# Altium footprint library Hydrophone.PcbLib: 32 footprints (part 2 of 2)
Each footprint in its own frame and in the unit in brackets; x right, y up, seen from the top. Pads: shape width x height; smd on the part's side, far side on the other; paste and mask are expansions set on the pad; w line width, h text height; cw(c..) or ccw(c..) is an arc to the next point about the centre after c.
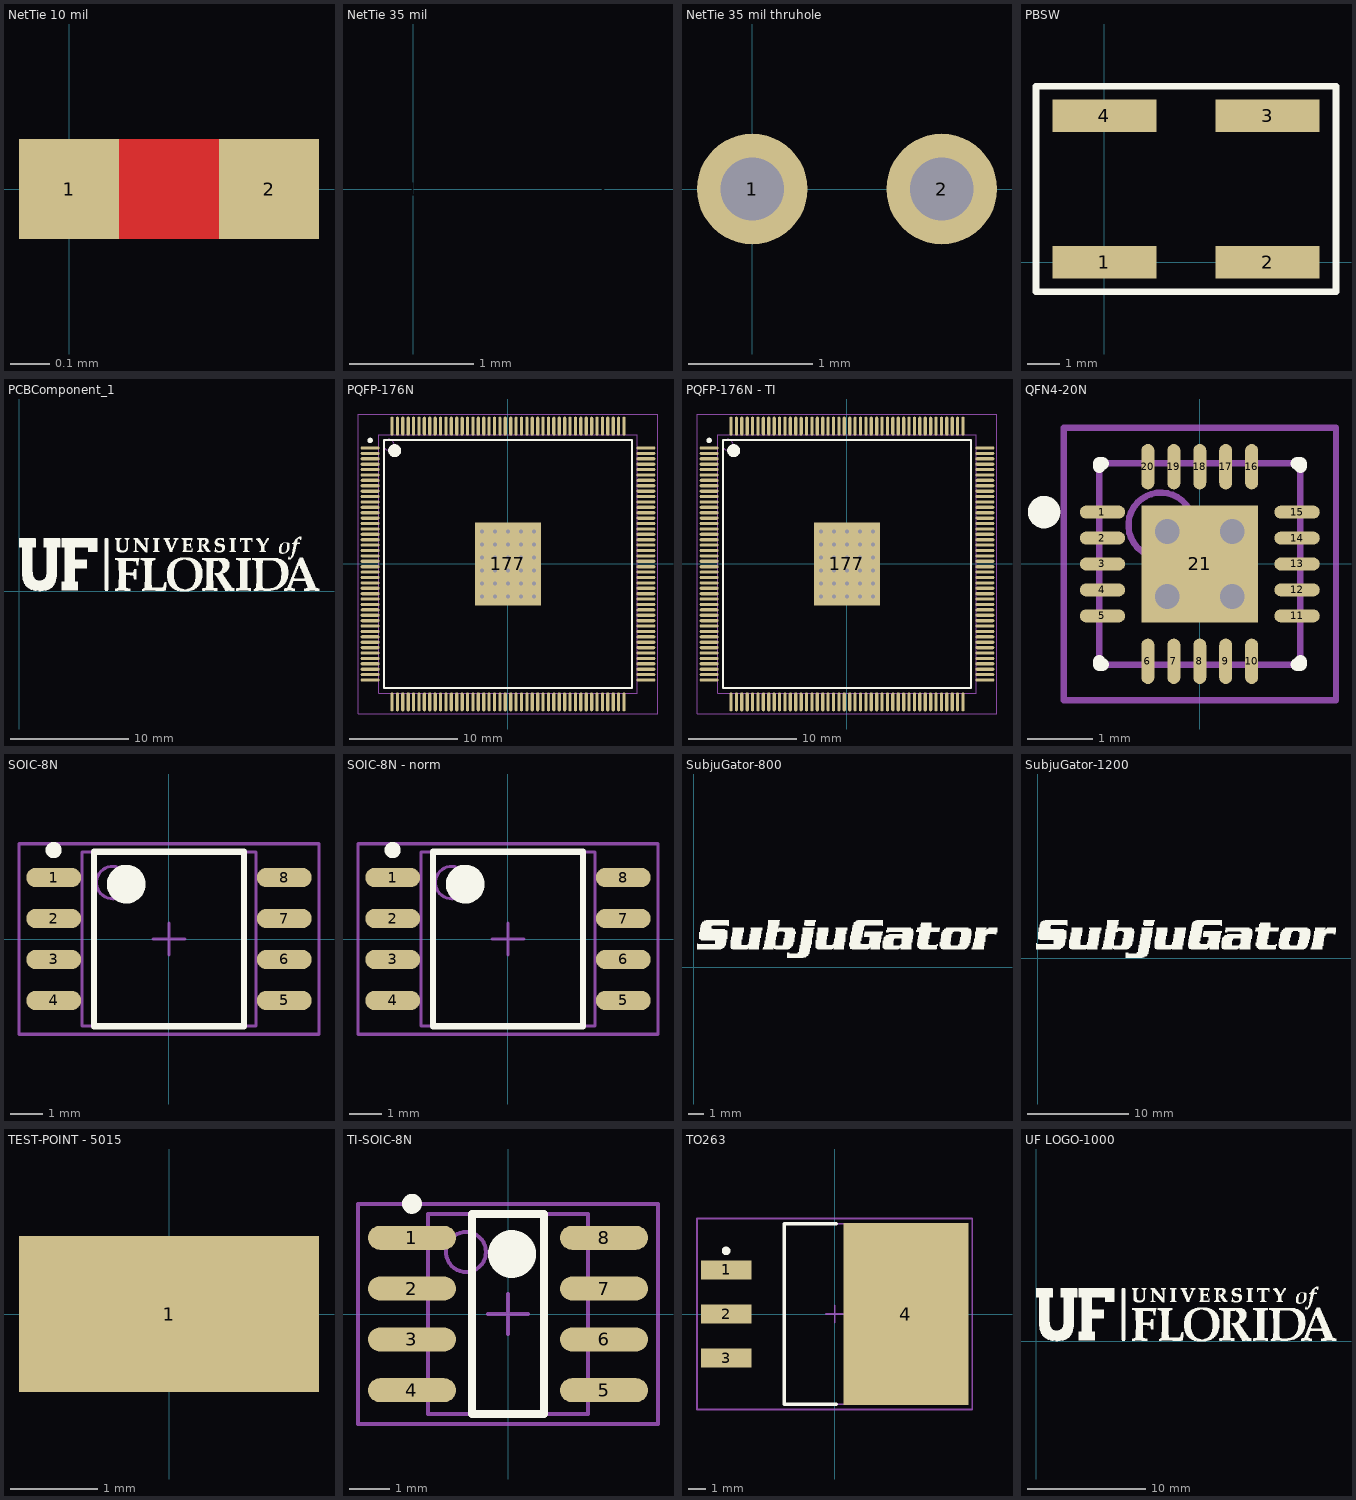
[diagram p1: the footprints below, top view; thin cyan lines are the x and y axes]

## NetTie 10 mil [mil]
pads (2):
  rect 10x10 smd paste-10 mask-10: 1(0,0) 2(20,0)
Top Layer:
  lines w10: 0,0 20,0

## NetTie 35 mil [mil]
pads (2):
  rect 35x35 on Mid1 paste+0 mask-35: 1(0,0) 2(60,0)
MidLayer1:
  lines w40: 0,0 60,0

## NetTie 35 mil thruhole [mil]
pads (2):
  round 35 hole 20 paste+0: 1(0,0)
  round 35 hole 20: 2(60,0)
MidLayer1:
  lines w35: 0,0 60,0

## PBSW [mm]
height 5
pads (4):
  rect 3.2x1 smd: 1(0,0) 2(5,0) 3(5,4.5) 4(0,4.5)
Top Overlay:
  lines w0.203: -2.1,-0.9 7.1,-0.9 7.1,5.4 -2.1,5.4 -2.1,-0.9
3D body: height 5, standoff 0, extent -2,-0.75 7,5.25

## PCBComponent_1 [mm]
Top Overlay:
  drawing of 22 lines, arcs and shapes, not listed

## PQFP-176N [mm] "PQFP, 176-Leads, Body 25.8x25.8mm (max), Pitch 0.50mm, IPC Medium Density"
height 1.6
pads (177):
  oval 1.75x0.3 smd mask+0.05: 1(-12.775,10.75) 2(-12.775,10.25) 3(-12.775,9.75) 4(-12.775,9.25) 5(-12.775,8.75) 6(-12.775,8.25) 7(-12.775,7.75) 8(-12.775,7.25) 9(-12.775,6.75) 10(-12.775,6.25) 11(-12.775,5.75) 12(-12.775,5.25) 13(-12.775,4.75) 14(-12.775,4.25) 15(-12.775,3.75) 16(-12.775,3.25) 17(-12.775,2.75) 18(-12.775,2.25) 19(-12.775,1.75) 20(-12.775,1.25) 21(-12.775,0.75) 22(-12.775,0.25) 23(-12.775,-0.25) 24(-12.775,-0.75) 25(-12.775,-1.25) 26(-12.775,-1.75) 27(-12.775,-2.25) 28(-12.775,-2.75) 29(-12.775,-3.25) 30(-12.775,-3.75) 31(-12.775,-4.25) 32(-12.775,-4.75) 33(-12.775,-5.25) 34(-12.775,-5.75) 35(-12.775,-6.25) 36(-12.775,-6.75) 37(-12.775,-7.25) 38(-12.775,-7.75) 39(-12.775,-8.25) 40(-12.775,-8.75) 41(-12.775,-9.25) 42(-12.775,-9.75) 43(-12.775,-10.25) 44(-12.775,-10.75) 89(12.775,-10.75) 90(12.775,-10.25) 91(12.775,-9.75) 92(12.775,-9.25) 93(12.775,-8.75) 94(12.775,-8.25) 95(12.775,-7.75) 96(12.775,-7.25) 97(12.775,-6.75) 98(12.775,-6.25) 99(12.775,-5.75) 100(12.775,-5.25) 101(12.775,-4.75) 102(12.775,-4.25) 103(12.775,-3.75) 104(12.775,-3.25) 105(12.775,-2.75) 106(12.775,-2.25) 107(12.775,-1.75) 108(12.775,-1.25) 109(12.775,-0.75) 110(12.775,-0.25) 111(12.775,0.25) 112(12.775,0.75) 113(12.775,1.25) 114(12.775,1.75) 115(12.775,2.25) 116(12.775,2.75) 117(12.775,3.25) 118(12.775,3.75) 119(12.775,4.25) 120(12.775,4.75) 121(12.775,5.25) 122(12.775,5.75) 123(12.775,6.25) 124(12.775,6.75) 125(12.775,7.25) 126(12.775,7.75) 127(12.775,8.25) 128(12.775,8.75) 129(12.775,9.25) 130(12.775,9.75) 131(12.775,10.25) 132(12.775,10.75)
  oval 0.3x1.75 smd mask+0.05: 45(-10.75,-12.775) 46(-10.25,-12.775) 47(-9.75,-12.775) 48(-9.25,-12.775) 49(-8.75,-12.775) 50(-8.25,-12.775) 51(-7.75,-12.775) 52(-7.25,-12.775) 53(-6.75,-12.775) 54(-6.25,-12.775) 55(-5.75,-12.775) 56(-5.25,-12.775) 57(-4.75,-12.775) 58(-4.25,-12.775) 59(-3.75,-12.775) 60(-3.25,-12.775) 61(-2.75,-12.775) 62(-2.25,-12.775) 63(-1.75,-12.775) 64(-1.25,-12.775) 65(-0.75,-12.775) 66(-0.25,-12.775) 67(0.25,-12.775) 68(0.75,-12.775) 69(1.25,-12.775) 70(1.75,-12.775) 71(2.25,-12.775) 72(2.75,-12.775) 73(3.25,-12.775) 74(3.75,-12.775) 75(4.25,-12.775) 76(4.75,-12.775) 77(5.25,-12.775) 78(5.75,-12.775) 79(6.25,-12.775) 80(6.75,-12.775) 81(7.25,-12.775) 82(7.75,-12.775) 83(8.25,-12.775) 84(8.75,-12.775) 85(9.25,-12.775) 86(9.75,-12.775) 87(10.25,-12.775) 88(10.75,-12.775) 133(10.75,12.775) 134(10.25,12.775) 135(9.75,12.775) 136(9.25,12.775) 137(8.75,12.775) 138(8.25,12.775) 139(7.75,12.775) 140(7.25,12.775) 141(6.75,12.775) 142(6.25,12.775) 143(5.75,12.775) 144(5.25,12.775) 145(4.75,12.775) 146(4.25,12.775) 147(3.75,12.775) 148(3.25,12.775) 149(2.75,12.775) 150(2.25,12.775) 151(1.75,12.775) 152(1.25,12.775) 153(0.75,12.775) 154(0.25,12.775) 155(-0.25,12.775) 156(-0.75,12.775) 157(-1.25,12.775) 158(-1.75,12.775) 159(-2.25,12.775) 160(-2.75,12.775) 161(-3.25,12.775) 162(-3.75,12.775) 163(-4.25,12.775) 164(-4.75,12.775) 165(-5.25,12.775) 166(-5.75,12.775) 167(-6.25,12.775) 168(-6.75,12.775) 169(-7.25,12.775) 170(-7.75,12.775) 171(-8.25,12.775) 172(-8.75,12.775) 173(-9.25,12.775) 174(-9.75,12.775) 175(-10.25,12.775) 176(-10.75,12.775)
  rect 6.1x7.7 smd: 177(0,0)
via -2.4,3 diameter 0.711 hole 0.381
via -1.2,3 diameter 0.711 hole 0.381
via 0,3 diameter 0.711 hole 0.381
via 1.2,3 diameter 0.711 hole 0.381
via 2.4,3 diameter 0.711 hole 0.381
via -2.4,1.8 diameter 0.711 hole 0.381
via -1.2,1.8 diameter 0.711 hole 0.381
via 0,1.8 diameter 0.711 hole 0.381
via 1.2,1.8 diameter 0.711 hole 0.381
via 2.4,1.8 diameter 0.711 hole 0.381
via -2.4,0.6 diameter 0.711 hole 0.381
via -1.2,0.6 diameter 0.711 hole 0.381
via 0,0.6 diameter 0.711 hole 0.381
via 1.2,0.6 diameter 0.711 hole 0.381
via 2.4,0.6 diameter 0.711 hole 0.381
via -2.4,-0.6 diameter 0.711 hole 0.381
via -1.2,-0.6 diameter 0.711 hole 0.381
via 0,-0.6 diameter 0.711 hole 0.381
via 1.2,-0.6 diameter 0.711 hole 0.381
via 2.4,-0.6 diameter 0.711 hole 0.381
via -2.4,-1.8 diameter 0.711 hole 0.381
via -1.2,-1.8 diameter 0.711 hole 0.381
via 0,-1.8 diameter 0.711 hole 0.381
via 1.2,-1.8 diameter 0.711 hole 0.381
via 2.4,-1.8 diameter 0.711 hole 0.381
via -2.4,-3 diameter 0.711 hole 0.381
via -1.2,-3 diameter 0.711 hole 0.381
via 0,-3 diameter 0.711 hole 0.381
via 1.2,-3 diameter 0.711 hole 0.381
via 2.4,-3 diameter 0.711 hole 0.381
Top Overlay:
  circle w0.25: c-12.775,11.45 r0.125
  circle w0.6: c-10.5,10.5 r0.3
  lines w0.2: -11.5,-11.5 -11.5,11.5 11.5,11.5 11.5,-11.5 -11.5,-11.5
Mechanical 13:
  circle w0.1: c-11.05,11.05 r0.5
  lines w0.1: -12,-12 -12,12 12,12 12,-12 -12,-12
Mechanical 15:
  lines w0.1: -0.5,0 0.5,0 ; 0,-0.5 0,0.5 ; -13.9,-13.9 -13.9,13.9 13.9,13.9 13.9,-13.9 -13.9,-13.9
3D body: height 1.35, standoff 0, extent -13.014,-13.014 13.014,13.014

## PQFP-176N - TI [mm] "PQFP, 176-Leads, Body 25.8x25.8mm (max), Pitch 0.50mm, IPC Medium Density"
height 1.6
pads (177):
  oval 1.75x0.3 smd mask+0.05: 1(-12.775,10.75) 2(-12.775,10.25) 3(-12.775,9.75) 4(-12.775,9.25) 5(-12.775,8.75) 6(-12.775,8.25) 7(-12.775,7.75) 8(-12.775,7.25) 9(-12.775,6.75) 10(-12.775,6.25) 11(-12.775,5.75) 12(-12.775,5.25) 13(-12.775,4.75) 14(-12.775,4.25) 15(-12.775,3.75) 16(-12.775,3.25) 17(-12.775,2.75) 18(-12.775,2.25) 19(-12.775,1.75) 20(-12.775,1.25) 21(-12.775,0.75) 22(-12.775,0.25) 23(-12.775,-0.25) 24(-12.775,-0.75) 25(-12.775,-1.25) 26(-12.775,-1.75) 27(-12.775,-2.25) 28(-12.775,-2.75) 29(-12.775,-3.25) 30(-12.775,-3.75) 31(-12.775,-4.25) 32(-12.775,-4.75) 33(-12.775,-5.25) 34(-12.775,-5.75) 35(-12.775,-6.25) 36(-12.775,-6.75) 37(-12.775,-7.25) 38(-12.775,-7.75) 39(-12.775,-8.25) 40(-12.775,-8.75) 41(-12.775,-9.25) 42(-12.775,-9.75) 43(-12.775,-10.25) 44(-12.775,-10.75) 89(12.775,-10.75) 90(12.775,-10.25) 91(12.775,-9.75) 92(12.775,-9.25) 93(12.775,-8.75) 94(12.775,-8.25) 95(12.775,-7.75) 96(12.775,-7.25) 97(12.775,-6.75) 98(12.775,-6.25) 99(12.775,-5.75) 100(12.775,-5.25) 101(12.775,-4.75) 102(12.775,-4.25) 103(12.775,-3.75) 104(12.775,-3.25) 105(12.775,-2.75) 106(12.775,-2.25) 107(12.775,-1.75) 108(12.775,-1.25) 109(12.775,-0.75) 110(12.775,-0.25) 111(12.775,0.25) 112(12.775,0.75) 113(12.775,1.25) 114(12.775,1.75) 115(12.775,2.25) 116(12.775,2.75) 117(12.775,3.25) 118(12.775,3.75) 119(12.775,4.25) 120(12.775,4.75) 121(12.775,5.25) 122(12.775,5.75) 123(12.775,6.25) 124(12.775,6.75) 125(12.775,7.25) 126(12.775,7.75) 127(12.775,8.25) 128(12.775,8.75) 129(12.775,9.25) 130(12.775,9.75) 131(12.775,10.25) 132(12.775,10.75)
  oval 0.3x1.75 smd mask+0.05: 45(-10.75,-12.775) 46(-10.25,-12.775) 47(-9.75,-12.775) 48(-9.25,-12.775) 49(-8.75,-12.775) 50(-8.25,-12.775) 51(-7.75,-12.775) 52(-7.25,-12.775) 53(-6.75,-12.775) 54(-6.25,-12.775) 55(-5.75,-12.775) 56(-5.25,-12.775) 57(-4.75,-12.775) 58(-4.25,-12.775) 59(-3.75,-12.775) 60(-3.25,-12.775) 61(-2.75,-12.775) 62(-2.25,-12.775) 63(-1.75,-12.775) 64(-1.25,-12.775) 65(-0.75,-12.775) 66(-0.25,-12.775) 67(0.25,-12.775) 68(0.75,-12.775) 69(1.25,-12.775) 70(1.75,-12.775) 71(2.25,-12.775) 72(2.75,-12.775) 73(3.25,-12.775) 74(3.75,-12.775) 75(4.25,-12.775) 76(4.75,-12.775) 77(5.25,-12.775) 78(5.75,-12.775) 79(6.25,-12.775) 80(6.75,-12.775) 81(7.25,-12.775) 82(7.75,-12.775) 83(8.25,-12.775) 84(8.75,-12.775) 85(9.25,-12.775) 86(9.75,-12.775) 87(10.25,-12.775) 88(10.75,-12.775) 133(10.75,12.775) 134(10.25,12.775) 135(9.75,12.775) 136(9.25,12.775) 137(8.75,12.775) 138(8.25,12.775) 139(7.75,12.775) 140(7.25,12.775) 141(6.75,12.775) 142(6.25,12.775) 143(5.75,12.775) 144(5.25,12.775) 145(4.75,12.775) 146(4.25,12.775) 147(3.75,12.775) 148(3.25,12.775) 149(2.75,12.775) 150(2.25,12.775) 151(1.75,12.775) 152(1.25,12.775) 153(0.75,12.775) 154(0.25,12.775) 155(-0.25,12.775) 156(-0.75,12.775) 157(-1.25,12.775) 158(-1.75,12.775) 159(-2.25,12.775) 160(-2.75,12.775) 161(-3.25,12.775) 162(-3.75,12.775) 163(-4.25,12.775) 164(-4.75,12.775) 165(-5.25,12.775) 166(-5.75,12.775) 167(-6.25,12.775) 168(-6.75,12.775) 169(-7.25,12.775) 170(-7.75,12.775) 171(-8.25,12.775) 172(-8.75,12.775) 173(-9.25,12.775) 174(-9.75,12.775) 175(-10.25,12.775) 176(-10.75,12.775)
  rect 6.1x7.7 smd: 177(0,0)
via 2.4,-3 diameter 0.711 hole 0.381
via 1.2,-3 diameter 0.711 hole 0.381
via 0,-3 diameter 0.711 hole 0.381
via -1.2,-3 diameter 0.711 hole 0.381
via -2.4,-3 diameter 0.711 hole 0.381
via 2.4,-1.8 diameter 0.711 hole 0.381
via 1.2,-1.8 diameter 0.711 hole 0.381
via 0,-1.8 diameter 0.711 hole 0.381
via -1.2,-1.8 diameter 0.711 hole 0.381
via -2.4,-1.8 diameter 0.711 hole 0.381
via 2.4,-0.6 diameter 0.711 hole 0.381
via 1.2,-0.6 diameter 0.711 hole 0.381
via 0,-0.6 diameter 0.711 hole 0.381
via -1.2,-0.6 diameter 0.711 hole 0.381
via -2.4,-0.6 diameter 0.711 hole 0.381
via 2.4,0.6 diameter 0.711 hole 0.381
via 1.2,0.6 diameter 0.711 hole 0.381
via 0,0.6 diameter 0.711 hole 0.381
via -1.2,0.6 diameter 0.711 hole 0.381
via -2.4,0.6 diameter 0.711 hole 0.381
via 2.4,1.8 diameter 0.711 hole 0.381
via 1.2,1.8 diameter 0.711 hole 0.381
via 0,1.8 diameter 0.711 hole 0.381
via -1.2,1.8 diameter 0.711 hole 0.381
via -2.4,1.8 diameter 0.711 hole 0.381
via 2.4,3 diameter 0.711 hole 0.381
via 1.2,3 diameter 0.711 hole 0.381
via 0,3 diameter 0.711 hole 0.381
via -1.2,3 diameter 0.711 hole 0.381
via -2.4,3 diameter 0.711 hole 0.381
Top Overlay:
  circle w0.6: c-10.5,10.5 r0.3
  circle w0.25: c-12.775,11.45 r0.125
  lines w0.2: -11.5,-11.5 11.5,-11.5 11.5,11.5 -11.5,11.5 -11.5,-11.5
Mechanical 13:
  circle w0.1: c-11.05,11.05 r0.5
  lines w0.1: -12,-12 12,-12 12,12 -12,12 -12,-12
Mechanical 15:
  lines w0.1: -0.5,0 0.5,0 ; 0,-0.5 0,0.5 ; -13.9,-13.9 13.9,-13.9 13.9,13.9 -13.9,13.9 -13.9,-13.9
3D body: height 1.36, standoff 0, extent -12.065,-12.065 12.065,12.065
3D body: height 1.35, standoff 0, extent -13.014,-13.014 13.014,13.014

## QFN4-20N [mm] "QFN, 20-Leads, Body 3.1x3.1mm (max), Pitch 0.40mm, IPC Medium Density"
height 0.8
pads (21):
  oval 0.7x0.2 smd mask+0.05: 1(-1.5,0.8) 2(-1.5,0.4) 3(-1.5,0) 4(-1.5,-0.4) 5(-1.5,-0.8) 11(1.5,-0.8) 12(1.5,-0.4) 13(1.5,0) 14(1.5,0.4) 15(1.5,0.8)
  oval 0.2x0.7 smd mask+0.05: 6(-0.8,-1.5) 7(-0.4,-1.5) 8(0,-1.5) 9(0.4,-1.5) 10(0.8,-1.5) 16(0.8,1.5) 17(0.4,1.5) 18(0,1.5) 19(-0.4,1.5) 20(-0.8,1.5)
  rect 1.8x1.8 smd: 21(0,0)
via -0.5,-0.5 diameter 0.711 hole 0.381
via 0.5,0.5 diameter 0.711 hole 0.381
via 0.5,-0.5 diameter 0.711 hole 0.381
via -0.5,0.5 diameter 0.711 hole 0.381
Top Overlay:
  circle w0.25: c-2.4,0.8 r0.125
  lines w0.2: -1.55,-1.5 -1.55,-1.55 -1.5,-1.55 ; -1.55,1.5 -1.55,1.55 -1.5,1.55 ; 1.5,-1.55 1.55,-1.55 1.55,-1.5 ; 1.5,1.55 1.55,1.55 1.55,1.5
Mechanical 13:
  circle w0.1: c-0.6,0.6 r0.5
  lines w0.1: -1.55,-1.55 1.55,-1.55 1.55,1.55 -1.55,1.55 -1.55,-1.55
Mechanical 15:
  lines w0.1: -0.5,0 0.5,0 ; 0,-0.5 0,0.5 ; -2.1,-2.1 2.1,-2.1 2.1,2.1 -2.1,2.1 -2.1,-2.1
3D body: height 0.92, standoff 0, extent -2,-2 2,2

## SOIC-8N [mm] "SOIC, 8-Leads, Body 5.4x5.4mm (max), Pitch 1.27mm, IPC Medium Density"
height 2.16
pads (8):
  oval 1.7x0.6 smd: 1(-3.575,1.905) 2(-3.575,0.635) 3(-3.575,-0.635) 4(-3.575,-1.905) 5(3.575,-1.905) 6(3.575,-0.635) 7(3.575,0.635) 8(3.575,1.905)
Top Overlay:
  circle w0.25: c-3.575,2.755 r0.125
  circle w0.6: c-1.325,1.7 r0.3
  lines w0.2: -2.325,-2.7 -2.325,2.7 2.325,2.7 2.325,-2.7 -2.325,-2.7
Mechanical 13:
  circle w0.1: c-1.75,1.75 r0.5
  lines w0.1: -2.7,-2.7 -2.7,2.7 2.7,2.7 2.7,-2.7 -2.7,-2.7
Mechanical 15:
  lines w0.1: -0.5,0 0.5,0 ; 0,-0.5 0,0.5 ; -4.65,-2.95 -4.65,2.95 4.65,2.95 4.65,-2.95 -4.65,-2.95
3D body: height 2.3, standoff -0.02, extent -4.196,-2.7 4.196,2.68

## SOIC-8N - norm [mm]
height 2.16
pads (8):
  oval 1.7x0.6 smd: 1(-3.575,1.905) 2(-3.575,0.635) 3(-3.575,-0.635) 4(-3.575,-1.905) 5(3.575,-1.905) 6(3.575,-0.635) 7(3.575,0.635) 8(3.575,1.905)
Top Overlay:
  circle w0.25: c-3.575,2.755 r0.125
  circle w0.6: c-1.325,1.7 r0.3
  lines w0.2: -2.325,-2.7 -2.325,2.7 2.325,2.7 2.325,-2.7 -2.325,-2.7
Mechanical 13:
  circle w0.1: c-1.75,1.75 r0.5
  lines w0.1: -2.7,-2.7 -2.7,2.7 2.7,2.7 2.7,-2.7 -2.7,-2.7
Mechanical 15:
  lines w0.1: -0.5,0 0.5,0 ; 0,-0.5 0,0.5 ; -4.65,-2.95 -4.65,2.95 4.65,2.95 4.65,-2.95 -4.65,-2.95
3D body: height 1.75, standoff 0, extent -3.006,-2.5 3.006,2.5

## SubjuGator-800 [mm]
Top Overlay:
  drawing of 11 lines, arcs and shapes, not listed

## SubjuGator-1200 [mm]
Top Overlay:
  drawing of 11 lines, arcs and shapes, not listed

## TEST-POINT - 5015 [mil] "Test Point"
height 320
pads (1):
  rect 135x70 smd: 1(0,0)
3D body: height 60, standoff 0, extent -52.49,-19.99 52.51,20.01

## TI-SOIC-8N [mm] "SOIC, 8-Leads, Body 5.0x4.0mm (max), Pitch 1.27mm, IPC Medium Density"
height 1.75
pads (8):
  oval 2.2x0.6 smd: 1(-2.4,1.905) 2(-2.4,0.635) 3(-2.4,-0.635) 4(-2.4,-1.905) 5(2.4,-1.905) 6(2.4,-0.635) 7(2.4,0.635) 8(2.4,1.905)
Top Overlay:
  circle w0.6: c0.1,1.5 r0.3
  circle w0.25: c-2.4,2.755 r0.125
  lines w0.2: -0.9,-2.5 0.9,-2.5 0.9,2.5 -0.9,2.5 -0.9,-2.5
Mechanical 13:
  circle w0.1: c-1.05,1.55 r0.5
  lines w0.1: -2,-2.5 2,-2.5 2,2.5 -2,2.5 -2,-2.5
Mechanical 15:
  lines w0.1: -0.5,0 0.5,0 ; 0,-0.5 0,0.5 ; -3.75,-2.75 3.75,-2.75 3.75,2.75 -3.75,2.75 -3.75,-2.75
3D body: height 1.75, standoff 0.1, extent -2,-2.5 2,2.55
3D body: height 1.75, standoff 0, extent -3.006,-2.5 3.006,2.5

## TO263 [mm] "D2-PAK, 4-Pads, Body 8.9x10.4mm (max), IPC Medium Density"
height 4.64
pads (4):
  rect 2.9x1.1 smd: 1(-6.25,2.54) 2(-6.25,0) 3(-6.25,-2.54)
  rect 7.2x10.5 smd: 4(4.1,0)
Top Overlay:
  circle w0.25: c-6.25,3.64 r0.125
  lines w0.2: 0.1,-5.2 -2.9,-5.2 -2.9,5.2 0.1,5.2
Mechanical 13:
  lines w0.1: -2.9,-5.2 -2.9,5.2 5.99,5.2 5.99,-5.2 -2.9,-5.2
Mechanical 15:
  lines w0.1: -0.5,0 0.5,0 ; 0,-0.5 0,0.5 ; -7.925,-5.5 -7.925,5.5 7.925,5.5 7.925,-5.5 -7.925,-5.5
3D body: height 4.6, standoff 0, extent -7.55,-5.1 7.55,5.2

## UF LOGO-1000 [mm]
Top Overlay:
  drawing of 22 lines, arcs and shapes, not listed